# EAGLE library part DS4520 (library Orlando)
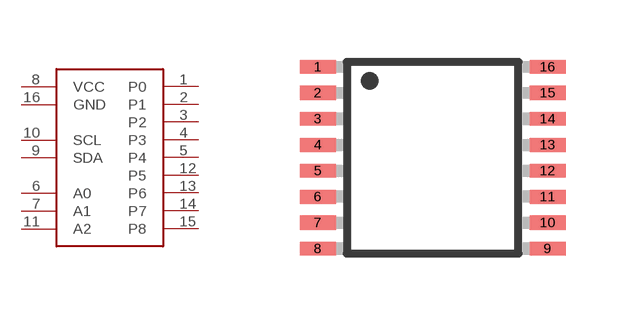
[diagram p18: symbol with the pads of TSSOP16; footprint TSSOP16]

Designator prefix -

## DS4520  [TSSOP16]
1  P0
2  P1
3  P2
4  P3
5  P4
6  A0
7  A1
8  VCC
9  SDA
10  SCL
11  A2
12  P5
13  P6
14  P7
15  P8
16  GND

## Footprint TSSOP16 (pad centres in mm)
16-Lead Thin Shrink Small Outline Package [TSSOP] (RU-16) Source: 8x ADG1408_1409.pdf
smd 0.9 x 0.35: 1 -2.875,2.275; 2 -2.875,1.625; 3 -2.875,0.975; 4 -2.875,0.325; 5 -2.875,-0.325; 6 -2.875,-0.975; 7 -2.875,-1.625; 8 -2.875,-2.275; 9 2.875,-2.275; 10 2.875,-1.625; 11 2.875,-0.975; 12 2.875,-0.325; 13 2.875,0.325; 14 2.875,0.975; 15 2.875,1.625; 16 2.875,2.275